# EAGLE library part LM301 (library BME_Components)
Non Compensated Single Operational Amplifier, 0 to 70 degC, 8-Pin PDIP, Tube
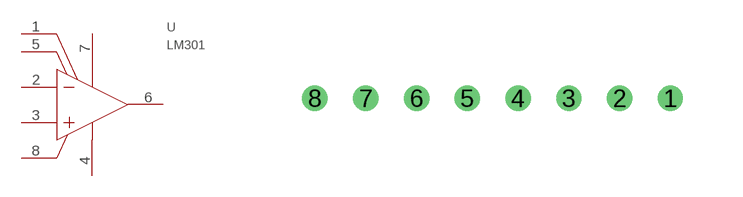
[diagram p19: symbol with the pads of LM301_PDIP-8; footprint LM301_PDIP-8]

Designator prefix U

## LM301LM301_LM301_PDIP-8 (COMPONENTLINK1DESCRIPTION: Manufacturer URL; COMPONENTLINK1URL: http://www.onsemi.com/; COMPONENTLINK2DESCRIPTION: Datasheet; COMPONENTLINK2URL: http://www.onsemi.cn/pub_link/Collateral/LM301A-D.PDF; COMPONENTLINK3DESCRIPTION: Package Specification; COMPONENTLINK3URL: http://www.onsemi.com/pub_link/Collateral/LM211-D.PDF; DATASHEETVERSION: Rev. 11; MANUFACTURER: On Semiconductor; MOUNTING_TECHNOLOGY: Through Hole; PACKAGEDESCRIPTION: 8-Pin Plastic Dual-In Line Package, Body 9.52 x 6.605 mm, Pitch 2.54 mm; PACKAGEREFERENCE: PDIP-8-626-05; PACKAGEVERSION: Rev. M, 04/2010; PACKING: Tube; PARTNUMBER: LM301AN; ROHS: FALSE)  [LM301_PDIP-8]
1  BALANCE  pas
2  IN-  in
3  IN+  in
4  VEE  pwr
5  BALANCE  pas
6  OUT  out
7  VCC  pwr
8  COMPENSATION  pas

## Footprint LM301_PDIP-8 (pad centres in mm)
drill 0.127 pad 0.254 round: 1 8.89,0; 2 7.62,0; 3 6.35,0; 4 5.08,0; 5 3.81,0; 6 2.54,0; 7 1.27,0; 8 0,0